# Altium footprint library TO.PcbLib: 3 footprints
Each footprint in its own frame and in the unit in brackets; x right, y up, seen from the top. Pads: shape width x height; smd on the part's side, far side on the other; paste and mask are expansions set on the pad; w line width, h text height; cw(c..) or ccw(c..) is an arc to the next point about the centre after c.
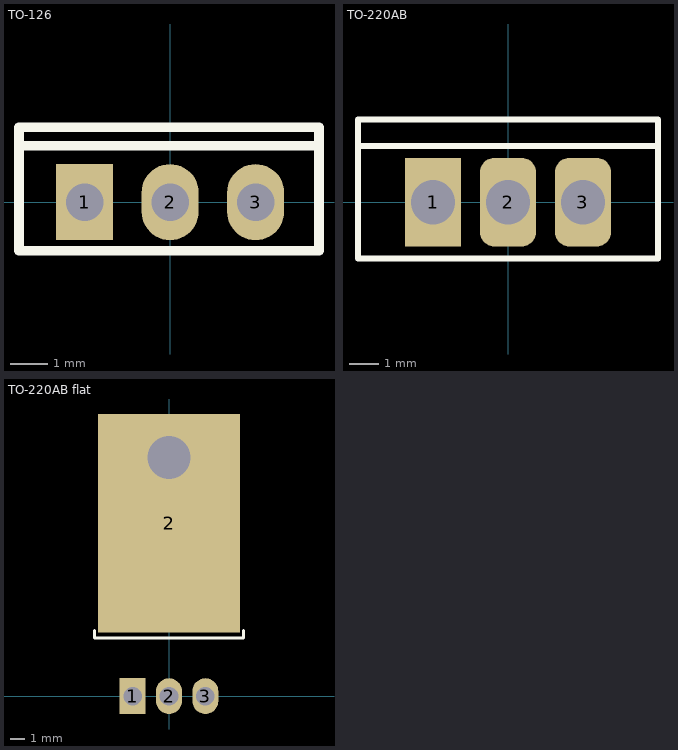
[diagram p0: the footprints below, top view; thin cyan lines are the x and y axes]

## TO-126 [mil]
pads (3):
  rect 60x80 hole 39.37: 1(-89.76,0)
  oval 60x80 hole 39.37: 2(0,0) 3(89.76,0)
Top Overlay:
  lines w10: -158.66,59.06 156.3,59.06 ; -158.66,-51.18 -158.66,78.74 156.3,78.74 156.3,-51.18 -158.66,-51.18
3D body "User Library-BD135 (TO-126,SOT32) v4.step": height 614.17, standoff -92.33, extent -153.25,-70.82 153.83,35.49

## TO-220AB [mm]
pads (3):
  rect 1.9x3 hole 1.5: 1(-2.54,0)
  rrect50% 1.9x3 hole 1.5: 2(0,0) 3(2.54,0)
Top Overlay:
  lines w0.203: -5.08,1.905 5.08,1.905 ; -5.08,-1.905 -5.08,2.794 5.08,2.794 5.08,-1.905 -5.08,-1.905
3D body "User Library-TO-220-4.STEP": height 19.49, standoff -9.31, extent -5.1,-1.778 5.1,2.722

## TO-220AB flat [mm]
pads (5):
  rect 1.8x2.5 hole 1.3: 1(-2.54,0)
  oval 1.8x2.5 hole 1.3: 2(0,0) 3(2.54,0)
  rect 9.906x15.24 smd: 2(0,12.065)
  round 0 hole 3: 2(0,16.637)
Top Overlay:
  lines w0.203: -5.207,4.572 -5.207,4.064 5.207,4.064 5.207,4.572
3D body "User Library-TO-220AB-L.step": height 4.5, standoff -3, extent -5,-0.254 5,19.45